# EAGLE library part MS5611-01BA03 (library Oles komponentbibliotek)
MS5611-01BA03 Barometric Pressure Sensor
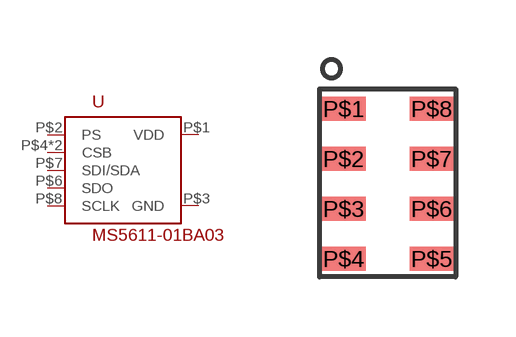
[diagram p61: symbol with the pads of MS5611-01BA03; footprint MS5611-01BA03]

Designator prefix -

## MS5611-01BA03  [MS5611-01BA03]
P$1  VDD  pwr
P$2  PS  in
P$3  GND  pwr
P$4  CSB  in
P$5  CSB  in
P$6  SDO  out
P$7  SDI/SDA
P$8  SCLK  in

## Footprint MS5611-01BA03 (pad centres in mm)
MS5611-01BA03 Barometric Pressure Sensor
smd 1.1 x 0.6: P$1 -1,2; P$2 -1,0.75; P$3 -1,-0.5; P$4 -1,-1.75; P$5 1.2,-1.75; P$6 1.2,-0.5; P$7 1.2,0.75; P$8 1.2,2